# Altium footprint library SNP268.PCBLib: 2 footprints
Each footprint in its own frame and in the unit in brackets; x right, y up, seen from the top. Pads: shape width x height; smd on the part's side, far side on the other; paste and mask are expansions set on the pad; w line width, h text height; cw(c..) or ccw(c..) is an arc to the next point about the centre after c.
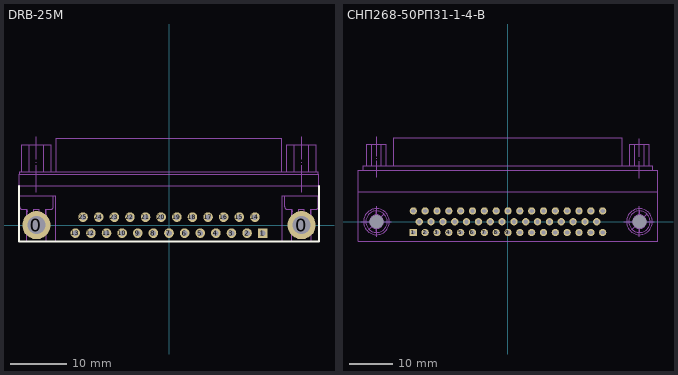
[diagram p0: the footprints below, top view; thin cyan lines are the x and y axes]

## DRB-25M [mm]
height 12.55
pads (27):
  round 5 hole 3.2: 0(-23.5,0) 0(23.5,0)
  rect 1.7x1.7 hole 1: 1(16.62,-1.42)
  round 1.7 hole 1: 2(13.85,-1.42) 3(11.08,-1.42) 4(8.31,-1.42) 5(5.54,-1.42) 6(2.77,-1.42) 7(0,-1.42) 8(-2.77,-1.42) 9(-5.54,-1.42) 10(-8.31,-1.42) 11(-11.08,-1.42) 12(-13.85,-1.42) 13(-16.62,-1.42) 14(15.235,1.42) 15(12.465,1.42) 16(9.695,1.42) 17(6.925,1.42) 18(4.155,1.42) 19(1.385,1.42) 20(-1.385,1.42) 21(-4.155,1.42) 22(-6.925,1.42) 23(-9.695,1.42) 24(-12.465,1.42) 25(-15.235,1.42)
Top Overlay:
  lines w0.3: -26.6,7 -26.6,-2.9 26.6,-2.9 26.6,7
Mechanical 1:
  lines w0.1: -23.5,5.82 -23.5,10.655 ; -23.5,11.085 -23.5,11.18 ; -23.5,11.695 -23.5,15.72 ; 23.5,5.81 23.5,10.645 ; 23.5,11.075 23.5,11.17 ; 23.5,11.685 23.5,15.71
  lines w0.2: -26.5,5.2 -26.5,3.3 ccw(c-26,3.3) -26,2.8 -25.1,2.8 -25.1,0.1 ; -26.49,9 -26.49,9.5 25.59,9.5 26.49,9.5 26.49,9 ; -26.098,9.5 -26.098,14.3 -24.799,14.3 ; -25.25,-0.15 ccw(c-23.5,-0.15) -21.75,-0.15 ; -25.25,0.1 -25.1,0.1 ; -25.25,1.85 cw(c-23.5,1.85) -25.1,2.559 ; -25.25,2.8 -25.25,-2.9 ; -25.232,-0.4 -25.1,-0.4 ; -24.799,9.5 -24.799,14.3 ; -22.201,9.5 -22.201,14.3 ; -21.9,2.559 cw(c-23.5,1.85) -21.75,1.85 ; -21.768,-0.4 -21.9,-0.4 ; -21.75,0.1 -21.9,0.1 ; -21.75,2.8 -21.75,-2.9 ; -20.902,9.5 -20.902,14.3 -22.201,14.3 ; -20.5,5.2 -20.5,3.3 cw(c-21,3.3) -21,2.8 -21.9,2.8 -21.9,0.1 ; -19.96,9.5 -19.96,15.4 19.96,15.4 19.96,9.5 ; 20.5,5.2 20.5,3.3 ccw(c21,3.3) 21,2.8 21.9,2.8 21.9,0.1 ; 20.902,9.5 20.902,14.3 22.201,14.3 ; 21.75,-0.15 ccw(c23.5,-0.15) 25.25,-0.15 ; 21.75,0.1 21.9,0.1 ; 21.75,1.85 cw(c23.5,1.85) 21.9,2.559 ; 21.75,2.8 21.75,-2.9 ; 21.768,-0.4 21.9,-0.4 ; 22.201,9.5 22.201,14.3 ; 24.799,9.5 24.799,14.3 ; 25.1,2.559 cw(c23.5,1.85) 25.25,1.85 ; 25.232,-0.4 25.1,-0.4 ; 25.25,0.1 25.1,0.1 ; 25.25,2.8 25.25,-2.9 ; 26.098,9.5 26.098,14.3 24.799,14.3 ; 26.5,5.2 26.5,3.3 cw(c26,3.3) 26,2.8 25.1,2.8 25.1,0.1 ; -26.59,5.2 -26.59,-2.9 -25.25,-2.9 ; -26.59,5.2 -26.59,7 ; -26.59,5.2 -20.07,5.2 -20.07,-2.9 ; -26.59,7 -26.59,9 25.59,9 26.59,9 26.59,7 ; -26.59,7 25.59,7 26.59,7 ; -25.25,-2.9 -21.75,-2.9 ; -25.1,-0.4 -25.1,0.1 ; -25.1,-0.4 -24,-0.4 -24,0.1 -24,2.8 -23,2.8 -23,0.1 -23,-0.4 -21.9,-0.4 ; -24.799,14.3 -22.201,14.3 ; -21.9,-0.4 -21.9,0.1 ; -21.75,-2.9 -20.07,-2.9 ; -20.07,-2.9 19.07,-2.9 20.07,-2.9 ; 20.07,-2.9 21.75,-2.9 ; 20.07,-2.9 20.07,5.2 26.59,5.2 ; 21.75,-2.9 25.25,-2.9 ; 21.9,-0.4 21.9,0.1 ; 21.9,-0.4 23,-0.4 23,0.1 23,2.8 24,2.8 24,0.1 24,-0.4 25.1,-0.4 ; 22.201,14.3 24.799,14.3 ; 25.1,-0.4 25.1,0.1 ; 25.25,-2.9 26.59,-2.9 26.59,5.2 ; 26.59,5.2 26.59,7
  text ".Designator" at -3.2,4.1 h1.5
  text "14" at 17.376,0.788 h1.5
  text "25" at -18.624,0.788 h1.5
  text "1" at 18.897,-1.837 h1.5
  text "13" at -19.35,-1.8 h1.5
Mechanical 2:
  lines w0.1: -23.5,5.82 -23.5,10.655 ; -23.5,11.085 -23.5,11.18 ; -23.5,11.695 -23.5,15.72 ; 23.5,5.81 23.5,10.645 ; 23.5,11.075 23.5,11.17 ; 23.5,11.685 23.5,15.71
  lines w0.2: -26.098,9.5 -26.098,14.3 -24.799,14.3 ; -25.097,0.1 cw(c-23.5,0) -21.903,0.1 ; -25.052,-0.388 ccw(c-23.5,0) -21.948,-0.388 ; -24.799,9.5 -24.799,14.3 ; -22.201,9.5 -22.201,14.3 ; -20.902,9.5 -20.902,14.3 -22.201,14.3 ; -19.96,9.5 -19.96,15.4 -19.925,15.4 19.079,15.4 19.925,15.4 19.96,15.4 19.96,9.5 ; 20.902,9.5 20.902,14.3 22.201,14.3 ; 21.903,0.1 cw(c23.5,0) 25.097,0.1 ; 21.948,-0.388 ccw(c23.5,0) 25.052,-0.388 ; 22.201,9.5 22.201,14.3 ; 24.799,9.5 24.799,14.3 ; 26.098,9.5 26.098,14.3 24.799,14.3 ; -24.799,14.3 -22.201,14.3 ; 22.201,14.3 24.799,14.3 ; -26.49,9 26.49,9 26.49,9.5 -25.5,9.5 -26.49,9.5 -26.49,9 ; -25.5,-0.4 -25.5,0.1 -24.25,0.1 -24,0.1 -24,-0.4 -24.25,-0.4 -25.5,-0.4 ; -23,-0.4 -22.75,-0.4 -21.5,-0.4 -21.5,0.1 -22.75,0.1 -23,0.1 -23,-0.4 ; 21.5,-0.4 22.75,-0.4 23,-0.4 23,0.1 22.75,0.1 21.5,0.1 21.5,-0.4 ; 24,-0.4 24,0.1 24.25,0.1 25.5,0.1 25.5,-0.4 24.25,-0.4 24,-0.4
3D body: height 12.55, standoff -4, extent -26.69,-2.9 26.69,15.4

## СНП268-50РП31-1-4-В [mm]
height 16.7
pads (52):
  round 0 hole 3.2 unplated mask+3: 0(-30.55,0) 0(30.55,0)
  rect 1.7x1.7 hole 1: 1(-22,-2.5)
  round 1.7 hole 1: 2(-19.25,-2.5) 3(-16.5,-2.5) 4(-13.75,-2.5) 5(-11,-2.5) 6(-8.25,-2.5) 7(-5.5,-2.5) 8(-2.75,-2.5) 9(0,-2.5) 10(2.75,-2.5) 11(5.5,-2.5) 12(8.25,-2.5) 13(11,-2.5) 14(13.75,-2.5) 15(16.5,-2.5) 16(19.25,-2.5) 17(22,-2.5) 18(-20.625,0) 19(-17.875,0) 20(-15.125,0) 21(-12.375,0) 22(-9.625,0) 23(-6.875,0) 24(-4.125,0) 25(-1.375,0) 26(1.375,0) 27(4.125,0) 28(6.875,0) 29(9.625,0) 30(12.375,0) 31(15.125,0) 32(17.875,0) 33(20.625,0) 34(-22,2.5) 35(-19.25,2.5) 36(-16.5,2.5) 37(-13.75,2.5) 38(-11,2.5) 39(-8.25,2.5) 40(-5.5,2.5) 41(-2.75,2.5) 42(0,2.5) 43(2.75,2.5) 44(5.5,2.5) 45(8.25,2.5) 46(11,2.5) 47(13.75,2.5) 48(16.5,2.5) 49(19.25,2.5) 50(22,2.5)
Mechanical 1:
  circle w0.2: c30.55,0 r1.6
  circle w0.2: c-30.55,0 r1.6
  lines w0.1: -33,0 -28,0 ; -30.555,-2.27 -30.555,2.49 ; -30.55,10.32 -30.55,14.2 ; -30.55,14.63 -30.55,14.725 ; -30.55,15.24 -30.55,19.6 ; -30.137,1.135 ccw(c-30.548,0.002) -29.404,0.382 ; 28.32,0 33.03,0 ; 30.55,10.16 30.55,14.04 ; 30.55,14.47 30.55,14.565 ; 30.55,15.08 30.55,19.3 ; 30.555,-2.51 30.555,2.705 ; 30.963,1.135 ccw(c30.552,0.002) 31.696,0.382
  lines w0.2: -33.6,12 -33.6,13 -31.6,13 31.6,13 33.6,13 33.6,12 ; -32.859,13 -32.859,18 -31.705,18 ; -31.705,13 -31.705,18 ; -29.395,13 -29.395,18 ; -28.241,13 -28.241,18 -29.395,18 ; -26.511,13 -26.511,19.5 -24.511,19.5 24.512,19.5 26.512,19.5 26.512,13 ; 28.241,13 28.241,18 29.395,18 ; 29.395,13 29.395,18 ; 31.705,13 31.705,18 ; 32.859,13 32.859,18 31.705,18 ; -34.85,7 -34.85,-4.5 34.85,-4.5 34.85,7 ; -34.85,7 -34.85,12 -27.85,12 27.85,12 34.85,12 34.85,7 ; -34.85,7 34.85,7 ; -31.705,18 -29.395,18 ; 29.395,18 31.705,18
  text "18" at -25.441,-0.202 h1.5
  text "34" at -25.451,2.208 h1.5
  text "1" at -25.847,-2.792 h1.5
  text "33" at 24.129,-0.307 h1.5
  text "50" at 24.244,2.093 h1.5
  text "17" at 23.924,-2.852 h1.5
  text ".Designator" at -2.99,5.23 h1.5
Mechanical 2:
  circle w0.2: c-30.55,0 r3
  circle w0.2: c-30.55,0 r2.5
  circle w0.2: c30.55,0 r3
  circle w0.2: c30.55,0 r2.5
  lines w0.1: -34.25,0 -27.15,0 ; -30.55,-3.5 -30.55,3.6 ; -30.55,10.305 -30.55,14.2 ; -30.55,14.63 -30.55,14.725 ; -30.55,15.24 -30.55,19.7 ; 26.85,0 33.95,0 ; 30.55,-3.5 30.55,3.6 ; 30.55,10.145 30.55,14.04 ; 30.55,14.47 30.55,14.565 ; 30.55,15.08 30.55,19.3
  lines w0.2: -34.85,5 -34.85,7 -34.85,12 -27.85,12 27.85,12 34.85,12 34.85,7 34.85,5 ; -33.6,12 -33.6,13 -31.6,13 31.6,13 33.6,13 33.6,12 ; -32.859,13 -32.859,18 -31.705,18 ; -32.25,-1.7 -30.55,0 -28.85,1.7 ; -31.705,13 -31.705,18 ; -29.395,13 -29.395,18 ; -28.241,13 -28.241,18 -29.395,18 ; -26.511,13 -26.511,19.5 -24.511,19.5 24.512,19.5 26.512,19.5 26.512,13 ; 28.241,13 28.241,18 29.395,18 ; 28.85,-1.7 30.55,0 32.25,1.7 ; 29.395,13 29.395,18 ; 31.705,13 31.705,18 ; 32.859,13 32.859,18 31.705,18 ; -31.705,18 -29.395,18 ; 29.395,18 31.705,18
3D body: height 16.7, standoff -3.5, extent -34.85,-4.5 34.85,19.5